# Altium footprint library Master_PcbLib.PcbLib: 18 footprints (part 2 of 2)
Each footprint in its own frame and in the unit in brackets; x right, y up, seen from the top. Pads: shape width x height; smd on the part's side, far side on the other; paste and mask are expansions set on the pad; w line width, h text height; cw(c..) or ccw(c..) is an arc to the next point about the centre after c.
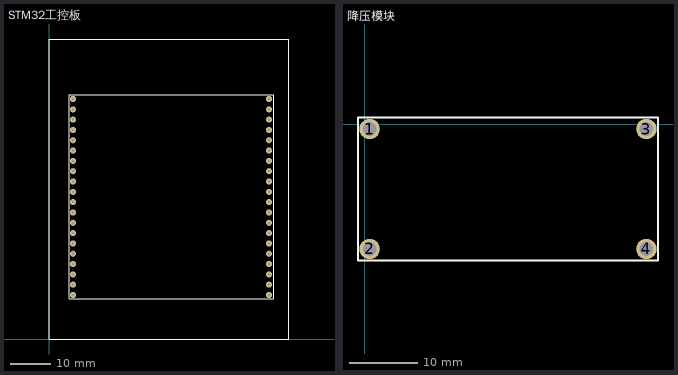
[diagram p1: the footprints below, top view; thin cyan lines are the x and y axes]

## STM32工控板 [mil]
pads (40):
  round 60 hole 30: 1(236.22,2362.2) 2(236.22,2260.67) 3(236.22,2159.14) 4(236.22,2057.6) 5(236.22,1956.07) 6(236.22,1854.54) 7(236.22,1753) 8(236.22,1651.47) 9(236.22,1549.94) 10(236.22,1448.4) 11(236.22,1346.87) 12(236.22,1245.34) 13(236.22,1143.8) 14(236.22,1042.27) 15(236.22,940.74) 16(236.22,839.2) 17(236.22,737.67) 18(236.22,636.14) 19(236.22,534.6) 20(236.22,433.07) 21(2165.35,433.07) 22(2165.35,534.6) 23(2165.35,636.14) 24(2165.35,737.67) 25(2165.35,839.2) 26(2165.35,940.74) 27(2165.35,1042.27) 28(2165.35,1143.8) 29(2165.35,1245.34) 30(2165.35,1346.87) 31(2165.35,1448.4) 32(2165.35,1549.94) 33(2165.35,1651.47) 34(2165.35,1753) 35(2165.35,1854.54) 36(2165.35,1956.07) 37(2165.35,2057.6) 38(2165.35,2159.14) 39(2165.35,2260.67) 40(2165.35,2362.2)
Top Overlay:
  lines w10: 0,0 2362.2,0 2362.2,2952.76 0,2952.76 0,0 ; 196.85,393.7 2204.72,393.7 2204.72,2401.57 196.85,2401.57 196.85,393.7

## 降压模块 [mm]
pads (4):
  round 3 hole 2: 1(0.7,-0.7) 2(0.7,-18.3) 3(41.3,-0.7) 4(41.3,-18.3)
Top Overlay:
  lines w0.254: -1,-20 -1,1 43,1 43,-20 -1,-20